# Altium schematic symbol library 49E.SchLib: 1 symbol
Pins are listed as number, name and electrical type; pins without a type are passive.

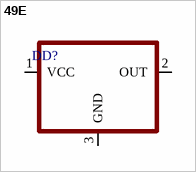
[diagram p0: symbol 49E]

## 49E
designator DD?
footprint SOT23-3
pins: 1 VCC, 2 OUT, 3 GND